# EAGLE library part G785 (library dec-m)
G785 Power Supoply Connector
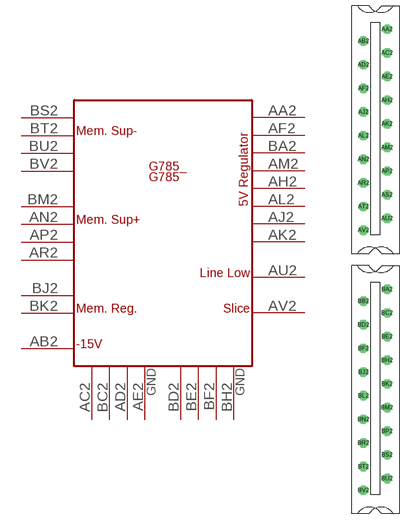
[diagram p120: symbol with the pads of H800-2; footprint H800-2]

Designator prefix G785_

## G785  [H800-2]
AA2  VCC  sup
AB2  AB2  in
AC2  GND  sup
AD2  GND  sup
AE2  GND  sup
AF2  VCC  sup
AH2  VCC  sup
AJ2  VCC  sup
AK2  VCC  sup
AL2  VCC  sup
AM2  VCC  sup
AN2  MEM_SUPPLY+  pwr
AP2  MEM_SUPPLY+  pwr
AR2  MEM_SUPPLY+  pwr
AU2  AU2  out
AV2  AV2  out
BA2  VCC  sup
BC2  GND  sup
BD2  GND  sup
BE2  GND  sup
BF2  GND  sup
BH2  GND  sup
BJ2  MEM_REG  in
BK2  MEM_REG  in
BM2  MEM_SUPPLY+  pwr
BS2  MEM_SUPPLY-  pwr
BT2  MEM_SUPPLY-  pwr
BU2  MEM_SUPPLY-  pwr
BV2  MEM_SUPPLY-  pwr

## Footprint H800-2 (pad centres in mm)
Two-wide Female Edge Connector
drill 1.676 octagon: AA2 3.175,60.325; AB2 -3.175,57.15; AC2 3.175,53.975; AD2 -3.175,50.8; AE2 3.175,47.625; AF2 -3.175,44.45; AH2 3.175,41.275; AJ2 -3.175,38.1; AK2 3.175,34.925; AL2 -3.175,31.75; AM2 3.175,28.575; AN2 -3.175,25.4; AP2 3.175,22.225; AR2 -3.175,19.05; AS2 3.175,15.875; AT2 -3.175,12.7; AU2 3.175,9.525; AV2 -3.175,6.35; BA2 3.175,-9.525; BB2 -3.175,-12.7; BC2 3.175,-15.875; BD2 -3.175,-19.05; BE2 3.175,-22.225; BF2 -3.175,-25.4; BH2 3.175,-28.575; BJ2 -3.175,-31.75; BK2 3.175,-34.925; BL2 -3.175,-38.1; BM2 3.175,-41.275; BN2 -3.175,-44.45; BP2 3.175,-47.625; BR2 -3.175,-50.8; BS2 3.175,-53.975; BT2 -3.175,-57.15; BU2 3.175,-60.325; BV2 -3.175,-63.5